# EAGLE library part UCC5672PWP (library SamacSys_Parts)
9 Line 2.7-5V Multimode Terminator for SCSI through Ultra320 with SPI-3 Mode Change Delay Source: Datasheet <http://www.ti.com/lit/gpn/ucc5672>
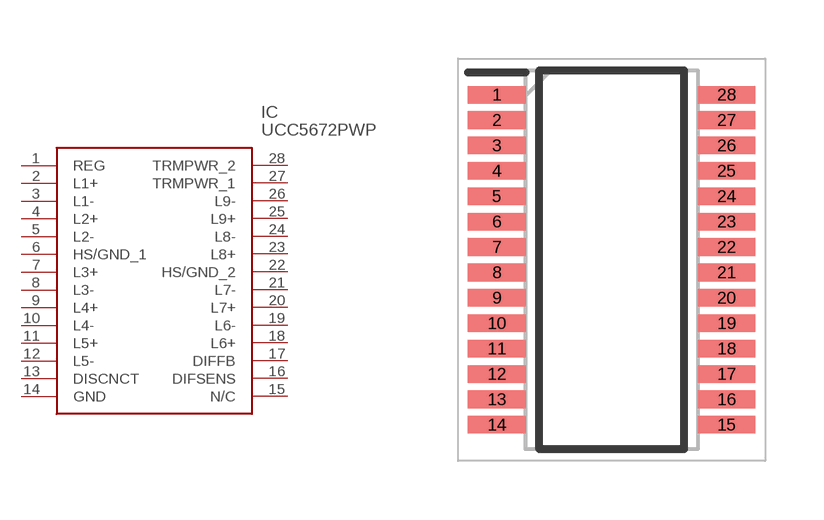
[diagram p61: symbol with the pads of SOP65P640X120-28N; footprint SOP65P640X120-28N]

Designator prefix IC

## UCC5672PWP (DESCRIPTION: 9 Line 2.7-5V Multimode Terminator for SCSI through Ultra320 with SPI-3 Mode Change Delay; HEIGHT: 1.2mm; MANUFACTURER_NAME: Texas Instruments; MANUFACTURER_PART_NUMBER: UCC5672PWP; MOUSER_PART_NUMBER: 595-UCC5672PWP; MOUSER_PRICE-STOCK: https://www.mouser.co.uk/ProductDetail/Texas-Instruments/UCC5672PWP?qs=8Pd2FuFSoMHGlVv%2FQRHjxA%3D%3D)  [SOP65P640X120-28N]
1  REG
2  L1+
3  L1-
4  L2+
5  L2-
6  HS/GND_1
7  L3+
8  L3-
9  L4+
10  L4-
11  L5+
12  L5-
13  DISCNCT
14  GND
15  N/C  nc
16  DIFSENS
17  DIFFB
18  L6+
19  L6-
20  L7+
21  L7-
22  HS/GND_2
23  L8+
24  L8-
25  L9+
26  L9-
27  TRMPWR_1
28  TRMPWR_2

## Footprint SOP65P640X120-28N (pad centres in mm)
PW(R-PDSO-G28)
smd 1.475 x 0.45: 1 -2.938,4.225; 2 -2.938,3.575; 3 -2.938,2.925; 4 -2.938,2.275; 5 -2.938,1.625; 6 -2.938,0.975; 7 -2.938,0.325; 8 -2.938,-0.325; 9 -2.938,-0.975; 10 -2.938,-1.625; 11 -2.938,-2.275; 12 -2.938,-2.925; 13 -2.938,-3.575; 14 -2.938,-4.225; 15 2.938,-4.225; 16 2.938,-3.575; 17 2.938,-2.925; 18 2.938,-2.275; 19 2.938,-1.625; 20 2.938,-0.975; 21 2.938,-0.325; 22 2.938,0.325; 23 2.938,0.975; 24 2.938,1.625; 25 2.938,2.275; 26 2.938,2.925; 27 2.938,3.575; 28 2.938,4.225